# Altium integrated library GRM022D80G104ME15L.IntLib: 1 symbol
Pins are listed as number, name and electrical type; pins without a type are passive.

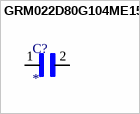
[diagram p0: symbol GRM022D80G104ME15L]

## GRM022D80G104ME15L
designator C?
0.1 ÂµF Â±20% 4V Ceramic Capacitor X6T 01005 (0402 Metric); MF: Murata Electronics; MP: GRM022D80G104ME15L; Package: 0402 Murata; Price: None; Check_prices: https://www.snapeda.com/parts/GRM022D80G104ME15L/Murata+Electronics+North+America/view-part/?ref=eda; Value: *; SnapEDA_Link: https://www.snapeda.com/parts/GRM022D80G104ME15L/Murata+Electronics+North+America/view-part/?ref=snap; Availability: In Stock; Purchase-URL: https://pricing.snapeda.com/search?q=GRM022D80G104ME15L&ref=eda
footprint CAPC0402X22N
pins: 1, 2